# Altium footprint library HVPSlibrary.PcbLib: 149 footprints (part 2 of 11)
Each footprint in its own frame and in the unit in brackets; x right, y up, seen from the top. Pads: shape width x height; smd on the part's side, far side on the other; paste and mask are expansions set on the pad; w line width, h text height; cw(c..) or ccw(c..) is an arc to the next point about the centre after c.
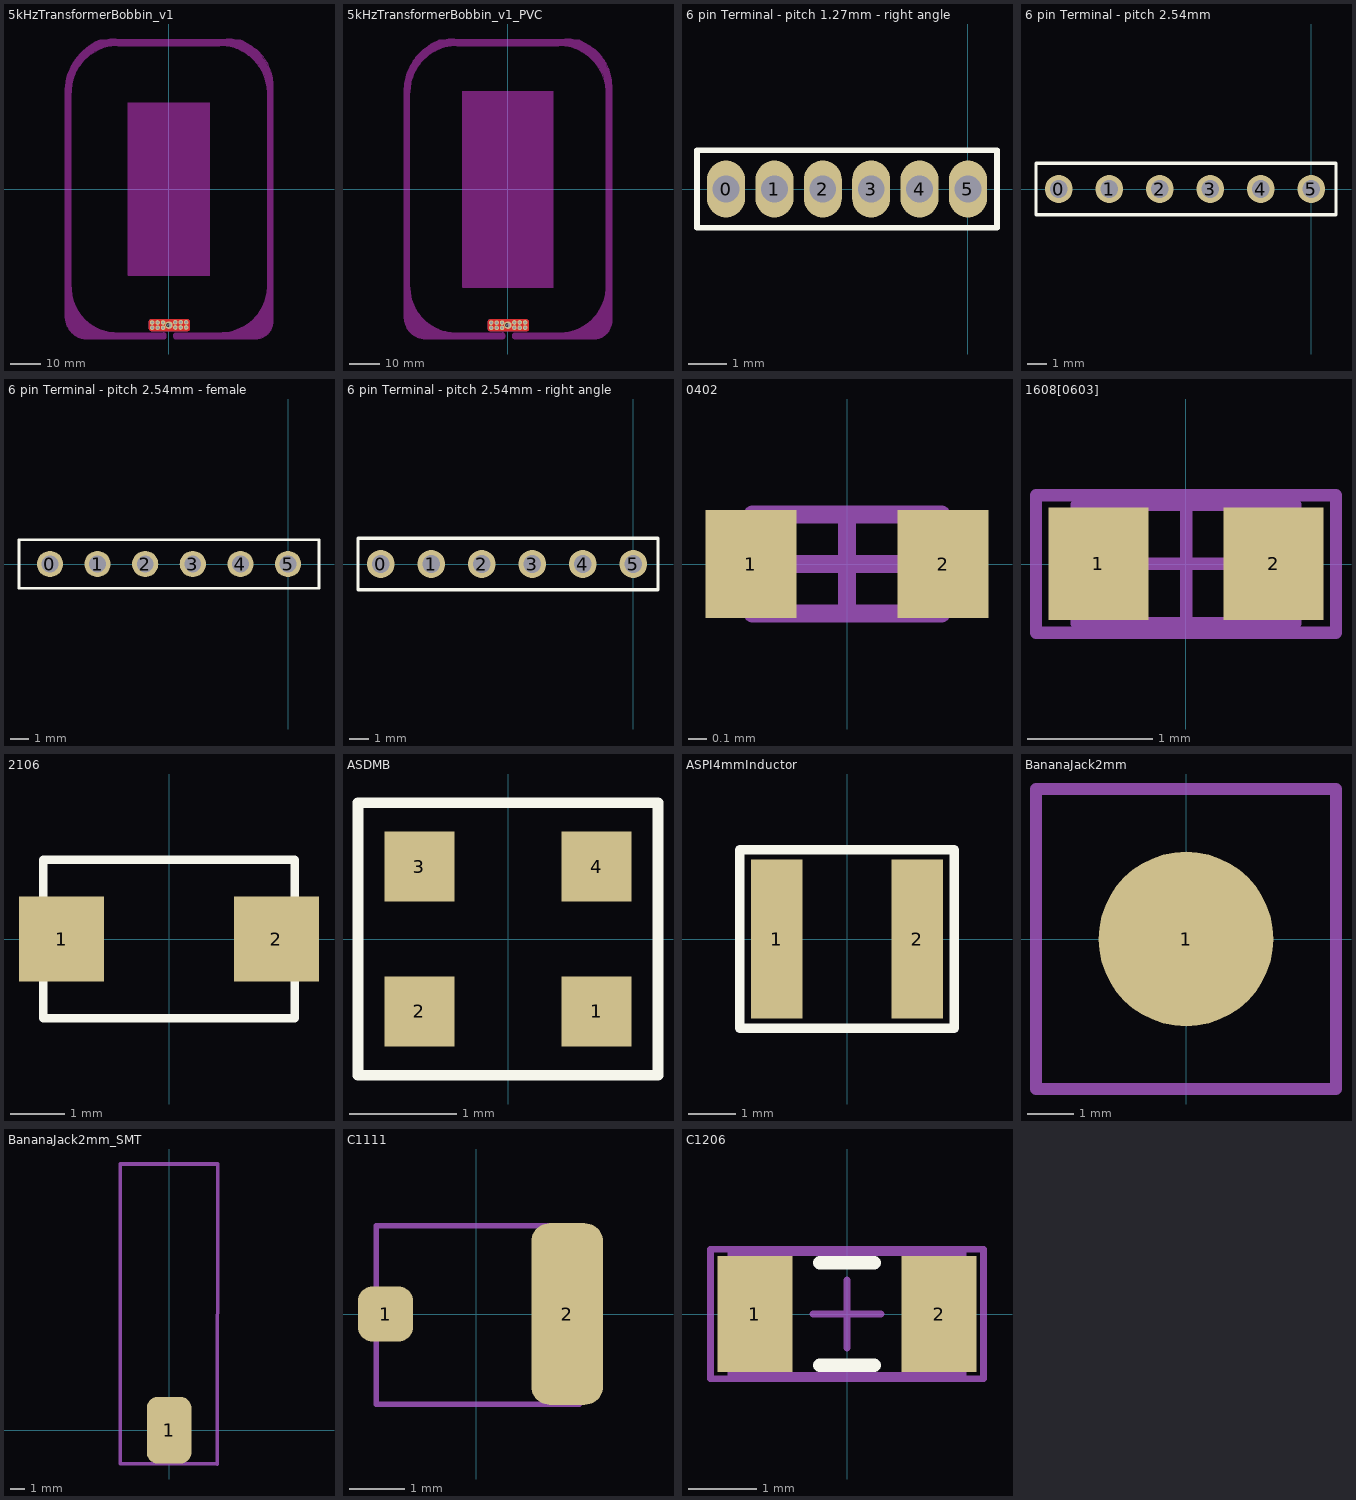
[diagram p1: the footprints below, top view; thin cyan lines are the x and y axes]

## 5kHzTransformerBobbin_v1 [mil]
pads (13):
  round 98.43 hole 58.27: 6(0,-1773.5)
  round 60 hole 30: 7(-218.5,-1807.5) 7(-218.5,-1740.5) 7(-147.5,-1807.5) 7(-147.5,-1740.5) 7(82.5,-1805) 7(82.5,-1738) 7(153.5,-1805) 7(153.5,-1738) 8(-76.5,-1807.5) 8(-76.5,-1740.5) 8(224.5,-1805) 8(224.5,-1738)
Top Layer:
  region: -224.17,-1852 -228.06,-1852 -235.69,-1850.48 -242.88,-1847.5 -249.35,-1843.18 -254.85,-1837.68 -259.18,-1831.21 -262.16,-1824.02 -263.67,-1816.39 -263.67,-1812.5 -263.67,-1736 -263.67,-1731.96 -262.1,-1724.04 -259.01,-1716.58 -254.52,-1709.86 -248.81,-1704.15 -242.09,-1699.67 -234.63,-1696.58 -226.71,-1695 -222.67,-1695 232.5,-1695 236.54,-1695 244.46,-1696.58 251.92,-1699.67 258.64,-1704.15 264.35,-1709.86 268.84,-1716.58 271.93,-1724.04 273.5,-1731.96 273.5,-1736 273.5,-1822.5 273.5,-1825.41 272.37,-1831.1 270.15,-1836.47 266.92,-1841.3 262.81,-1845.41 257.98,-1848.64 252.61,-1850.87 246.91,-1852 244,-1852
Bottom Layer:
  region: -224.17,-1852 -228.06,-1852 -235.69,-1850.48 -242.88,-1847.5 -249.35,-1843.18 -254.85,-1837.68 -259.18,-1831.21 -262.16,-1824.02 -263.67,-1816.39 -263.67,-1812.5 -263.67,-1736 -263.67,-1731.96 -262.1,-1724.04 -259.01,-1716.58 -254.52,-1709.86 -248.81,-1704.15 -242.09,-1699.67 -234.63,-1696.58 -226.71,-1695 -222.67,-1695 232.5,-1695 236.54,-1695 244.46,-1696.58 251.92,-1699.67 258.64,-1704.15 264.35,-1709.86 268.84,-1716.58 271.93,-1724.04 273.5,-1731.96 273.5,-1736 273.5,-1812.5 273.43,-1816.46 271.74,-1824.21 268.57,-1831.48 264.04,-1837.99 258.33,-1843.49 251.65,-1847.77 244.27,-1850.67 236.47,-1852.07 232.5,-1852
Keep-Out Layer:
  drawing of 2 lines, arcs and shapes, not listed
Keep-Out Layer:
  lines w10: -1350.5,-1674.53 ccw(c-1073.04,-1674.53) -1073.04,-1951.99 -66.86,-1951.99 ccw(c-66.86,-1918.85) -33.72,-1918.85 -33.72,-1912.66 ccw(c-72.57,-1912.66) -72.57,-1873.81 -680.61,-1873.81 cw(c-680.61,-1278.92) -1275.5,-1278.92 -1275.5,-206 -1275.5,1257.22 cw(c-665.22,1257.22) -665.22,1867.5 665.5,1867.5 cw(c665.5,1247) 1286,1247 1286,-1266.79 cw(c674.29,-1266.79) 674.29,-1878.5 97.08,-1878.5 ccw(c97.08,-1916.9) 58.68,-1916.9 ccw(c94.78,-1916.9) 94.78,-1953 1127.2,-1953 ccw(c1127.2,-1719.7) 1360.5,-1719.7 1360.5,1342.6 ccw(c747.6,1342.6) 747.6,1955.5 -687.19,1955.5 ccw(c-687.19,1292.19) -1350.5,1292.19 -1350.5,-1674.53 ; -531.5,-1122 -531.5,1122 531.5,1122 531.5,-1122 -531.5,-1122
3D body "keystone-PN1411-1.STEP": height 10.96, standoff -129.04, extent -27.5,-1801 27.5,-1746
3D body "keystone-PN1428-2.STEP": height 155.51, standoff -94.49, extent -39,-1812.5 39,-1734.5

## 5kHzTransformerBobbin_v1_PVC [mil]
pads (13):
  round 98.43 hole 58.27: 6(0,-1773.5)
  round 60 hole 30: 7(-218.5,-1807.5) 7(-218.5,-1740.5) 7(-147.5,-1807.5) 7(-147.5,-1740.5) 7(82.5,-1805) 7(82.5,-1738) 7(153.5,-1805) 7(153.5,-1738) 8(-76.5,-1807.5) 8(-76.5,-1740.5) 8(224.5,-1805) 8(224.5,-1738)
Top Layer:
  region: -224.17,-1852 -228.06,-1852 -235.69,-1850.48 -242.88,-1847.5 -249.35,-1843.18 -254.85,-1837.68 -259.18,-1831.21 -262.16,-1824.02 -263.67,-1816.39 -263.67,-1812.5 -263.67,-1736 -263.67,-1731.96 -262.1,-1724.04 -259.01,-1716.58 -254.52,-1709.86 -248.81,-1704.15 -242.09,-1699.67 -234.63,-1696.58 -226.71,-1695 -222.67,-1695 232.5,-1695 236.54,-1695 244.46,-1696.58 251.92,-1699.67 258.64,-1704.15 264.35,-1709.86 268.84,-1716.58 271.93,-1724.04 273.5,-1731.96 273.5,-1736 273.5,-1822.5 273.5,-1825.41 272.37,-1831.1 270.15,-1836.47 266.92,-1841.3 262.81,-1845.41 257.98,-1848.64 252.61,-1850.87 246.91,-1852 244,-1852
Bottom Layer:
  region: -224.17,-1852 -228.06,-1852 -235.69,-1850.48 -242.88,-1847.5 -249.35,-1843.18 -254.85,-1837.68 -259.18,-1831.21 -262.16,-1824.02 -263.67,-1816.39 -263.67,-1812.5 -263.67,-1736 -263.67,-1731.96 -262.1,-1724.04 -259.01,-1716.58 -254.52,-1709.86 -248.81,-1704.15 -242.09,-1699.67 -234.63,-1696.58 -226.71,-1695 -222.67,-1695 232.5,-1695 236.54,-1695 244.46,-1696.58 251.92,-1699.67 258.64,-1704.15 264.35,-1709.86 268.84,-1716.58 271.93,-1724.04 273.5,-1731.96 273.5,-1736 273.5,-1812.5 273.43,-1816.46 271.74,-1824.21 268.57,-1831.48 264.04,-1837.99 258.33,-1843.49 251.65,-1847.77 244.27,-1850.67 236.47,-1852.07 232.5,-1852
Keep-Out Layer:
  drawing of 2 lines, arcs and shapes, not listed
Keep-Out Layer:
  lines w10: -1354.5,-1671.53 ccw(c-1077.04,-1671.53) -1077.04,-1948.99 -70.86,-1948.99 ccw(c-70.86,-1915.85) -37.72,-1915.85 -37.72,-1909.66 ccw(c-76.57,-1909.66) -76.57,-1870.81 -684.61,-1870.81 cw(c-684.61,-1275.92) -1279.5,-1275.92 -1279.5,-203 -1279.5,1260.22 cw(c-669.22,1260.22) -669.22,1870.5 661.5,1870.5 cw(c661.5,1250) 1282,1250 1282,-1263.79 cw(c670.29,-1263.79) 670.29,-1875.5 93.08,-1875.5 ccw(c93.08,-1913.9) 54.68,-1913.9 ccw(c90.78,-1913.9) 90.78,-1950 1123.2,-1950 ccw(c1123.2,-1716.7) 1356.5,-1716.7 1356.5,1345.6 ccw(c743.6,1345.6) 743.6,1958.5 -691.19,1958.5 ccw(c-691.19,1295.19) -1354.5,1295.19 -1354.5,-1671.53 ; -589,-1277 -589,1277 589.5,1277 589.5,-1277 -589,-1277
3D body "keystone-PN1411-1.STEP": height 10.96, standoff -129.04, extent -27.5,-1801 27.5,-1746
3D body "keystone-PN1428-2.STEP": height 155.51, standoff -94.49, extent -39,-1812.5 39,-1734.5

## 6 pin Terminal - pitch 1.27mm - right angle [mm] "Right angle, male pin"
pads (6):
  oval 1x1.5 hole 0.7: 0(-6.35,0) 1(-5.08,0) 2(-3.81,0) 3(-2.54,0) 4(-1.27,0) 5(0,0)
Top Overlay:
  lines w0.152: -7.112,-1.016 -7.112,1.016 0.762,1.016 0.762,-1.016 -7.112,-1.016
3D body "_ _ _B061VWCN-RC.STEP": height 2.33, standoff -2.31, extent -6.985,-0.189 0.635,4.761

## 6 pin Terminal - pitch 2.54mm [mil]
pads (6):
  round 55 / inner round 60 / far side round 55 hole 35: 0(-500,0) 1(-400,0) 2(-300,0) 3(-200,0) 4(-100,0) 5(0,0)
Top Overlay:
  lines w6: -545,-51 49,-51 49,51 -545,51 -545,-51
3D body "c-3-644456-6-j-3d.stp": height 395, standoff -110, extent -539.09,-45.99 49.1,46.01

## 6 pin Terminal - pitch 2.54mm - female [mil]
pads (6):
  round 55 / inner round 60 / far side round 55 hole 35: 0(-500,0) 1(-400,0) 2(-300,0) 3(-200,0) 4(-100,0) 5(0,0)
Top Overlay:
  lines w6: -565,-51 -565,51 65,51 65,-51 -565,-51
3D body "_ _ _C061LFBN-RC.STEP": height 334.65, standoff -125.98, extent -559.84,-50 59.84,50

## 6 pin Terminal - pitch 2.54mm - right angle [mil] "Right angle, male pin"
pads (6):
  round 55 / inner round 60 / far side round 55 hole 35: 0(-500,0) 1(-400,0) 2(-300,0) 3(-200,0) 4(-100,0) 5(0,0)
Top Overlay:
  lines w6: -545,-51 -545,51 49,51 49,-51 -545,-51
3D body "MolexRightAngle_6pin_022052061.stp": height 263, standoff -109, extent -539.99,-353.99 50,46.51

## 0402 [mil] "Chip Resistor, 2-Leads, Body 1.0x0.5mm, IPC Medium Density"
height 19.68
pads (2):
  rect 20x23.62 smd: 1(-21,0) 2(21,0)
Mechanical 13:
  lines w3.94: -20.67,-10.83 20.67,-10.83 20.67,10.83 -20.67,10.83 -20.67,-10.83
Mechanical 15:
  lines w3.94: -10.83,0 10.83,0 ; 0,-10.83 0,10.83
3D body: height 19.68, standoff 0, extent -20.67,-10.83 20.67,10.83

## 1608[0603] [mm] "Chip Capacitor, Body 1.6x0.8mm, IPC High Density"
height 1.3
pads (2):
  rect 0.8x0.9 smd: 1(-0.7,0) 2(0.7,0)
Mechanical 13:
  lines w0.1: -0.875,-0.475 0.875,-0.475 0.875,0.475 -0.875,0.475 -0.875,-0.475
Mechanical 15:
  lines w0.1: -0.475,0 0.475,0 ; 0,-0.475 0,0.475 ; -1.2,-0.55 1.2,-0.55 1.2,0.55 -1.2,0.55 -1.2,-0.55
3D body: height 1.3, standoff 0, extent -0.875,-0.475 0.875,0.475

## 2106 [mm] "Diode ES1A"
pads (2):
  rect 1.555x1.55 smd: 1(-1.965,0) 2(1.965,0)
Top Overlay:
  lines w0.152: -2.3,-1.45 2.3,-1.45 2.3,1.45 -2.3,1.45 -2.3,-1.45
3D body: height 2.4, standoff 0, extent -2.286,-1.397 2.286,1.397

## Adafruit Bluefruit EZ Link [mm]
3D body "AdafruitBlueToothBoard.STEP": height 9.4, standoff 3.25, extent -48.811,-11.43 9.5,11.43

## ASDMB [mm]
pads (4):
  rect 0.65x0.65 smd: 1(0.825,-0.675) 2(-0.825,-0.675) 3(-0.825,0.675) 4(0.825,0.675)
Top Overlay:
  lines w0.1: -1.397,-1.27 -1.397,1.27 1.397,1.27 1.397,-1.27 -1.397,-1.27
3D body "ASDMB.STEP": height 0.81, standoff -0.04, extent -1.23,-1.016 1.27,0.984

## ASPI4mmInductor [mm]
pads (2):
  rect 1.1x3.4 smd: 1(-1.5,0) 2(1.5,0)
Top Overlay:
  lines w0.2: -2.286,-1.905 2.286,-1.905 2.286,1.905 -2.286,1.905 -2.286,-1.905

## BananaJack2mm [mm]
pads (1):
  round 3.8 smd: 1(0,0)
Mechanical 1:
  lines w0.254: -3.264,-3.264 -3.264,3.264 3.264,3.264 3.264,-3.264 -3.264,-3.264
3D body "BananaJack2MMConnector.STEP": height 20.16, standoff 0, extent -3.265,-3.265 3.265,3.265

## BananaJack2mm_SMT [mm]
pads (1):
  rrect50% 3x4.5 smd: 1(0,0)
Mechanical 1:
  lines w0.254: -3.289,-2.248 -3.289,17.907 3.277,17.907 3.238,-2.273 -3.289,-2.248
3D body "BananaJack2MMConnector.STEP": height 6.26, standoff -0.27, extent -3.292,-2.248 3.238,17.912

## C1111 [mm] "Chip Capacitor, Body 2.98x2.79mm, IPC High Density"
height 1.3
pads (2):
  rrect50% 1x1 smd: 1(-1.65,0)
  rrect50% 1.3x3.3 smd: 2(1.65,0)
Mechanical 13:
  lines w0.1: -1.816,-1.638 -1.816,1.6 1.867,1.6 1.867,-1.638 -1.816,-1.638
3D body: height 1.3, standoff 0, extent -1.765,-1.587 1.854,1.562

## C1206 [mm] "Chip Capacitor, Body 3.2x1.6mm, IPC High Density"
height 1.3
pads (2):
  rect 1.1x1.7 smd: 1(-1.35,0) 2(1.35,0)
Top Overlay:
  lines w0.2: -0.4,-0.75 0.4,-0.75 ; -0.4,0.75 0.4,0.75
Mechanical 13:
  lines w0.1: -1.7,-0.9 1.7,-0.9 1.7,0.9 -1.7,0.9 -1.7,-0.9
Mechanical 15:
  lines w0.1: -0.5,0 0.5,0 ; 0,-0.5 0,0.5 ; -2,-0.95 2,-0.95 2,0.95 -2,0.95 -2,-0.95
3D body: height 1.3, standoff 0, extent -1.7,-0.9 1.7,0.9